# Altium schematic symbol library MonitorLibrary.SchLib: 17 symbols (part 2 of 2)
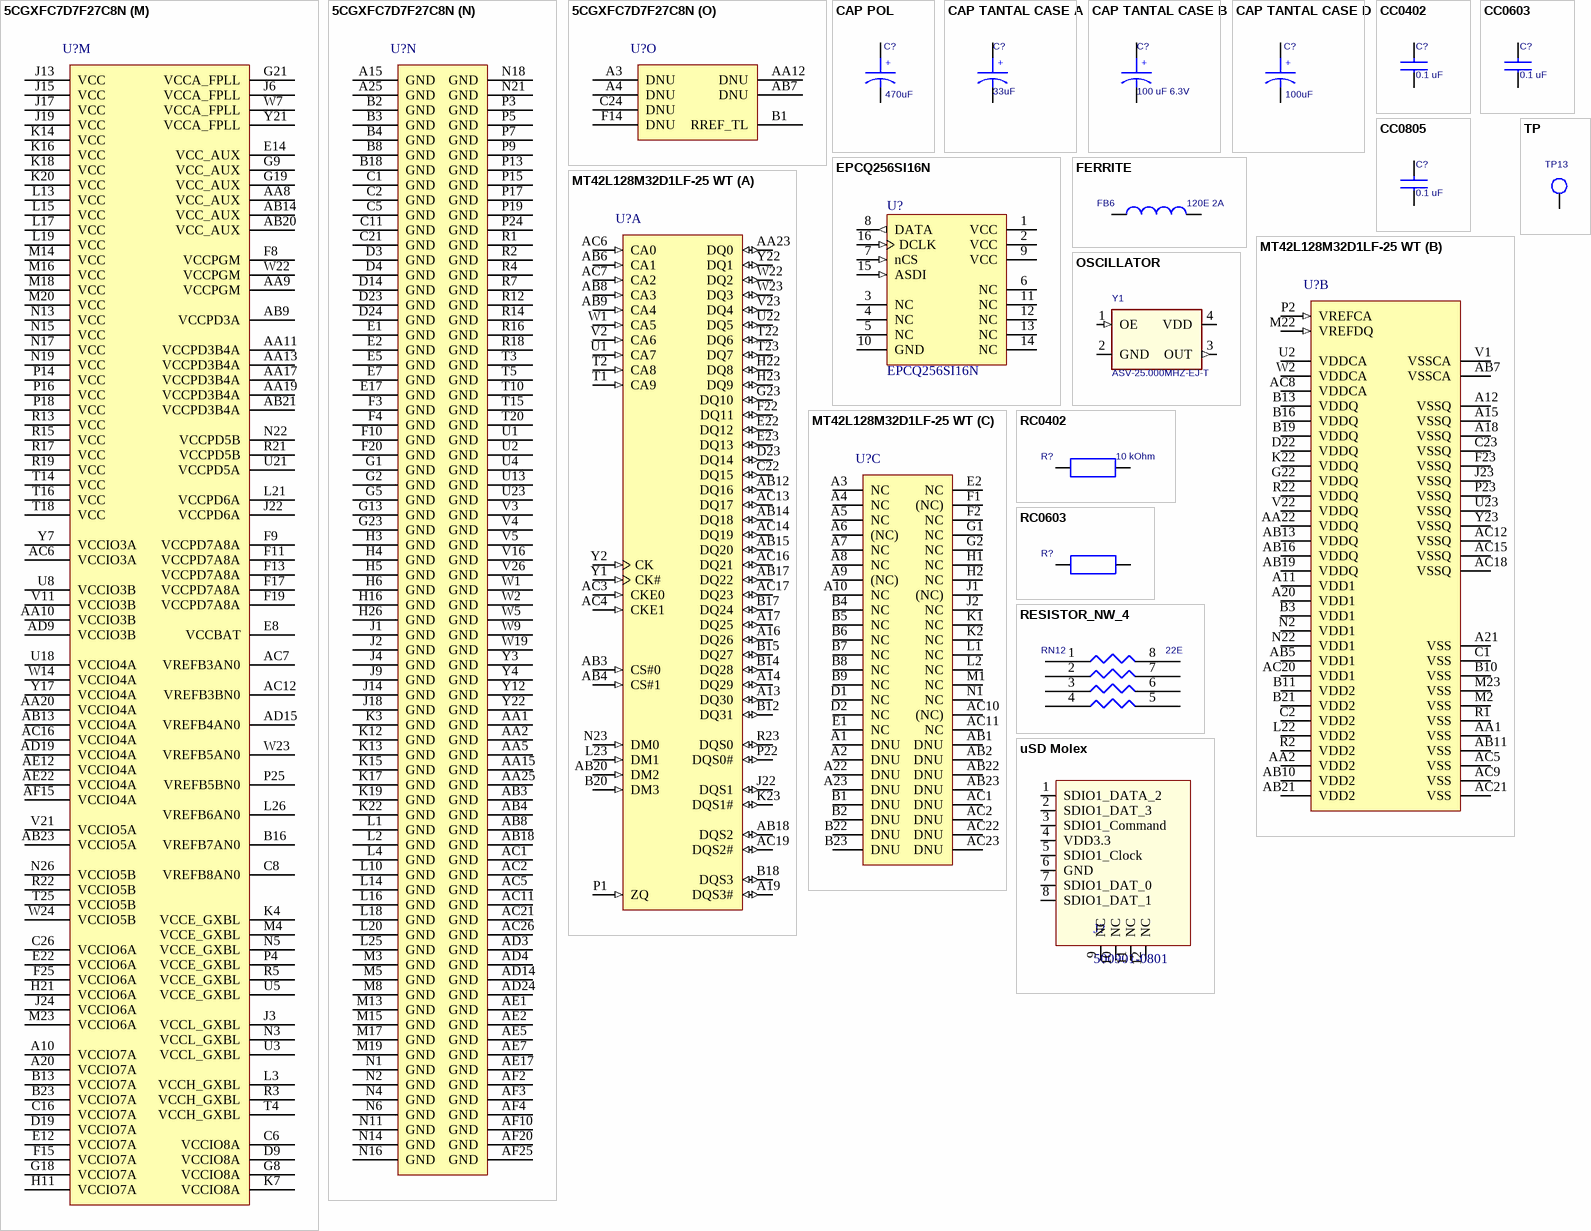
[diagram p5: symbols 5CGXFC7D7F27C8N to uSD Molex]

## RC0402
designator R?, comment 10 kOhm
Oper. Temp. Range: -55C to 125C; RoHS: Yes; Package: 0402
footprint RESC1005N (Chip Resistor, Body 1.1x0.5mm, IPC Medium Density)
pins: 1, 2

## RC0603
designator R?
Oper. Temp. Range: -55C to 125C; RoHS: Yes; Package: 0603
footprint RESC1608N (Chip Resistor, Body 1.6x0.8mm, IPC Medium Density)
pins: 1, 2

## RESISTOR_NW_4
designator RN12, comment 22E
Vendor Part#: Y7220CT-ND; Mfg Part#: EXB-28V220JX; Vendor: DigiKey; Oper. Temp. Range: -55C to 125C; Specifications: RES ARRAY 22 OHM 5% 4 RES SMD; Mfg: Panasonic - ECG; RoHS: Yes; Package: 0402x4
footprint RESN_EXB28V_0402X4
pins: 1, 2, 3, 4, 5, 6, 7, 8

## TP
designator TP13  (value not drawn)
Vendor Part#: -- NA --; Specifications: Test Point for Probing; Vendor: -- NA --; Mfg Part#: -- NA --; Mfg: -- NA --; Package: -- NA --; RoHS: Yes
footprint TP_40C_EINF
pins: 1 TP

## uSD Molex
designator J?, comment 500901-0801
500901-0801 microSD Molex; Supplier 1: Digi-Key; Supplier Part Number 1: WM19081CT-ND
footprint 500901-0801 Molex uSD - duplicate
pins: 1 SDIO1_DATA_2, 2 SDIO1_DAT_3, 3 SDIO1_Command, 4 VDD3.3, 5 SDIO1_Clock, 6 GND, 7 SDIO1_DAT_0, 8 SDIO1_DAT_1, 9 NC, 10 NC, 11 NC, 12 NC